# EAGLE library part RGB_LED_SMD (library open-ephys)
RGB LED (surface-mount)
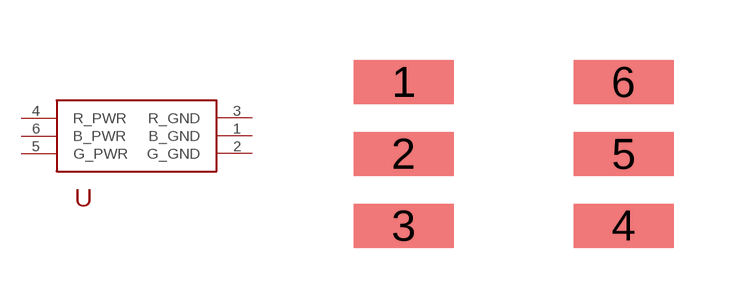
[diagram p1: symbol with the pads of RGB_LED_SMD; footprint RGB_LED_SMD]

Designator prefix -

## RGB_LED_SMD  [RGB_LED_SMD]
1  B_GND
2  G_GND
3  R_GND
4  R_PWR
5  G_PWR
6  B_PWR

## Footprint RGB_LED_SMD (pad centres in mm)
smd 2.5 x 1.1: 1 -2.75,3.6; 2 -2.75,1.8; 3 -2.75,0; 4 2.75,0; 5 2.75,1.8; 6 2.75,3.6